# Altium footprint library 1608.PcbLib: 3 footprints
Each footprint in its own frame and in the unit in brackets; x right, y up, seen from the top. Pads: shape width x height; smd on the part's side, far side on the other; paste and mask are expansions set on the pad; w line width, h text height; cw(c..) or ccw(c..) is an arc to the next point about the centre after c.
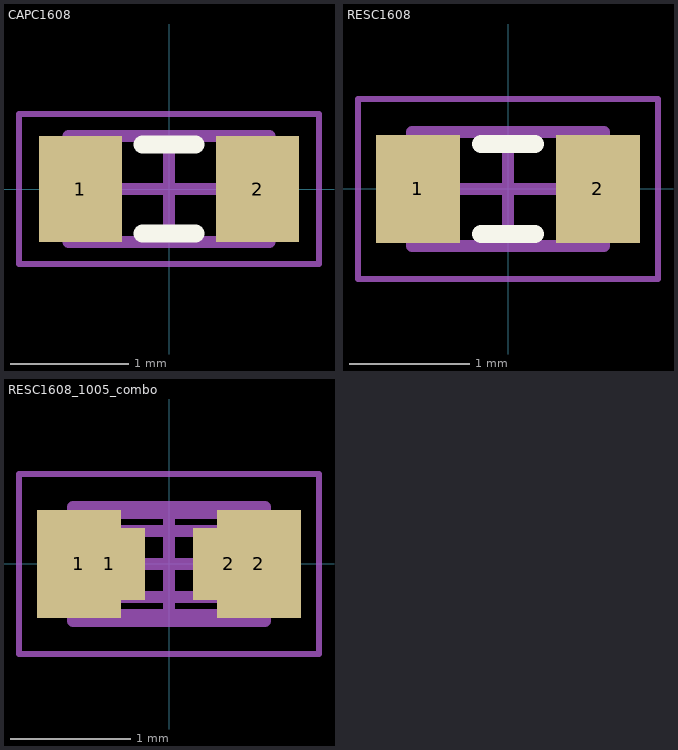
[diagram p0: the footprints below, top view; thin cyan lines are the x and y axes]

## CAPC1608 [mm] "Chip Capacitor, 2-Leads, Body 1,60x0,80mm, IPC Medium Density"
height 0.9
pads (2):
  rect 0.7x0.9 smd: 1(-0.75,0) 2(0.75,0)
Top Overlay:
  lines w0.152: -0.225,-0.375 0.225,-0.375 ; -0.225,0.375 0.225,0.375
Mechanical 13:
  lines w0.1: -0.85,-0.45 0.85,-0.45 0.85,0.45 -0.85,0.45 -0.85,-0.45
Mechanical 15:
  lines w0.05: -1.27,-0.635 1.27,-0.635 1.27,0.635 -1.27,0.635 -1.27,-0.635
  lines w0.1: -0.45,0 0.45,0 ; 0,-0.45 0,0.45
3D body "CAPC1608X09N.step": height 0.9, standoff 0, extent -0.85,-0.45 0.85,0.45

## RESC1608 [mm] "Chip Resistor, 2-Leads, Body 1,55x0,85mm, IPC Medium Density"
height 0.55
pads (2):
  rect 0.7x0.9 smd: 1(-0.75,0) 2(0.75,0)
Top Overlay:
  lines w0.152: -0.225,-0.375 0.225,-0.375 ; -0.225,0.375 0.225,0.375
Mechanical 13:
  lines w0.1: -0.8,-0.475 -0.8,0.475 0.8,0.475 0.8,-0.475 -0.8,-0.475
Mechanical 15:
  lines w0.05: -1.25,-0.75 -1.25,0.75 1.25,0.75 1.25,-0.75 -1.25,-0.75
  lines w0.1: -0.475,0 0.475,0 ; 0,-0.475 0,0.475
3D body "RESC1608X06N.step": height 0.55, standoff 0, extent -0.8,-0.475 0.8,0.475

## RESC1608_1005_combo [mm] "Chip Resistor, 2-Leads, Body 1,55x0,85mm, IPC Medium Density"
height 0.55
pads (4):
  rect 0.7x0.9 smd: 1(-0.75,0) 2(0.75,0)
  rect 0.6x0.6 smd: 1(-0.5,0) 2(0.5,0)
Mechanical 13:
  lines w0.1: -0.8,-0.475 0.8,-0.475 0.8,0.475 -0.8,0.475 -0.8,-0.475 ; -0.525,-0.275 0.525,-0.275 0.525,0.275 -0.525,0.275 -0.525,-0.275
Mechanical 15:
  lines w0.05: -1.25,-0.75 1.25,-0.75 1.25,0.75 -1.25,0.75 -1.25,-0.75 ; -0.75,-0.4 0.75,-0.4 0.75,0.4 -0.75,0.4 -0.75,-0.4
  lines w0.1: -0.475,0 0.475,0 ; -0.275,0 0.275,0 ; 0,-0.475 0,0.475 ; 0,-0.275 0,0.275
3D body "RESC1608X06N.step": height 0.55, standoff 0, extent -0.8,-0.475 0.8,0.475
3D body "RESC1005X04L.step": height 0.37, standoff 0, extent -0.525,-0.275 0.525,0.275